# EAGLE library part FT232 (library ft232)
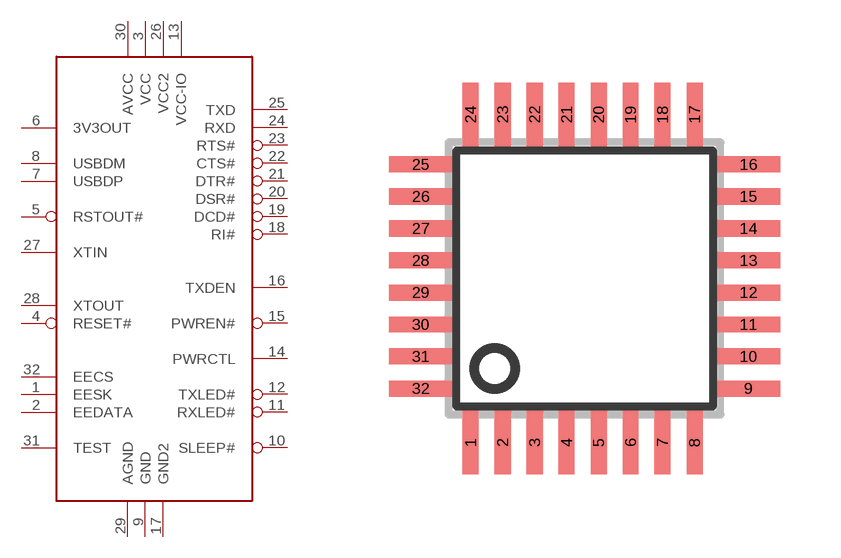
[diagram p3: symbol with the pads of SQFP-S-7X7-32; footprint SQFP-S-7X7-32]

Designator prefix -

## FT232  [SQFP-S-7X7-32]
1  EESK
2  EEDATA
3  VCC
4  RESET#
5  RSTOUT#
6  3V3OUT
7  USBDP
8  USBDM
9  GND
10  SLEEP#
11  RXLED#
12  TXLED#
13  VCC-IO
14  PWRCTL
15  PWREN#
16  TXDEN
17  GND2
18  RI#
19  DCD#
20  DSR#
21  DTR#
22  CTS#
23  RTS#
24  RXD
25  TXD
26  VCC2
27  XTIN
28  XTOUT
29  AGND
30  AVCC
31  TEST
32  EECS

## Footprint SQFP-S-7X7-32 (pad centres in mm)
QFP40 shrink quad flat pack, square
smd 0.4 x 1.6: 1 -2.85,-4.1; 2 -2.05,-4.1; 3 -1.25,-4.1; 4 -0.45,-4.1; 5 0.35,-4.1; 6 1.15,-4.1; 7 1.95,-4.1; 8 2.75,-4.1; 17 2.75,4.1; 18 1.95,4.1; 19 1.15,4.1; 20 0.35,4.1; 21 -0.45,4.1; 22 -1.25,4.1; 23 -2.05,4.1; 24 -2.85,4.1
smd 1.6 x 0.4: 9 4.1,-2.75; 10 4.1,-1.95; 11 4.1,-1.15; 12 4.1,-0.35; 13 4.1,0.45; 14 4.1,1.25; 15 4.1,2.05; 16 4.1,2.85; 25 -4.1,2.85; 26 -4.1,2.05; 27 -4.1,1.25; 28 -4.1,0.45; 29 -4.1,-0.35; 30 -4.1,-1.15; 31 -4.1,-1.95; 32 -4.1,-2.75